# Altium footprint library SOP65P810X110-32N.PcbLib: 2 footprints
Each footprint in its own frame and in the unit in brackets; x right, y up, seen from the top. Pads: shape width x height; smd on the part's side, far side on the other; paste and mask are expansions set on the pad; w line width, h text height; cw(c..) or ccw(c..) is an arc to the next point about the centre after c.
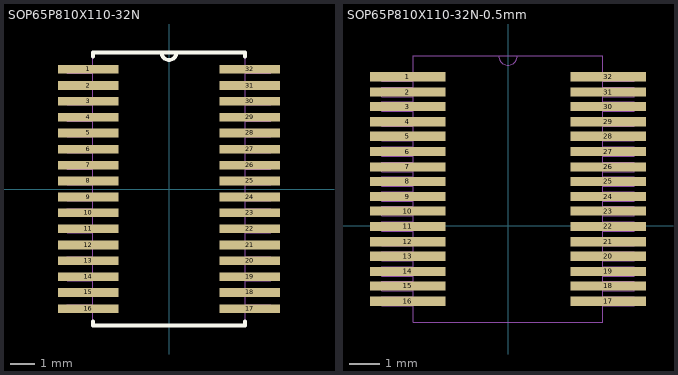
[diagram p0: the footprints below, top view; thin cyan lines are the x and y axes]

## SOP65P810X110-32N [mil]
pads (32):
  rect 97.36x14 smd: 1(-129.31,192) 2(-129.31,166) 3(-129.31,141) 4(-129.31,115) 5(-129.31,90) 6(-129.31,64) 7(-129.31,38) 8(-129.31,13) 9(-129.31,-13) 10(-129.31,-38) 11(-129.31,-64) 12(-129.31,-90) 13(-129.31,-115) 14(-129.31,-141) 15(-129.31,-166) 16(-129.31,-192) 17(129.31,-192) 18(129.31,-166) 19(129.31,-141) 20(129.31,-115) 21(129.31,-90) 22(129.31,-64) 23(129.31,-38) 24(129.31,-13) 25(129.31,13) 26(129.31,38) 27(129.31,64) 28(129.31,90) 29(129.31,115) 30(129.31,141) 31(129.31,166) 32(129.31,192)
Top Overlay:
  lines w6: -122,-212 -122,-219 122,-219 122,-212 ; -122,212 -122,219 -12,219 ; 122,212 122,219 12,219 ; -12,219 ccw(c0,219) 12,219 ; -12,219 12,219
Mechanical 13:
  lines w0: -12,219 ccw(c0,219) 12,219 ; -12,219 12,219 ; -12,219 -122,219 -122,-219 122,-219 122,219 12,219 ; -163,-198 -163,-186 -122,-186 -122,-198 -163,-198 ; -163,-172 -163,-160 -122,-160 -122,-172 -163,-172 ; -163,-147 -163,-135 -122,-135 -122,-147 -163,-147 ; -163,-121 -163,-109 -122,-109 -122,-121 -163,-121 ; -163,-95 -163,-84 -122,-84 -122,-95 -163,-95 ; -163,-70 -163,-58 -122,-58 -122,-70 -163,-70 ; -163,-44 -163,-32 -122,-32 -122,-44 -163,-44 ; -163,-19 -163,-7 -122,-7 -122,-19 -163,-19 ; -163,7 -163,19 -122,19 -122,7 -163,7 ; -163,32 -163,44 -122,44 -122,32 -163,32 ; -163,58 -163,70 -122,70 -122,58 -163,58 ; -163,84 -163,95 -122,95 -122,84 -163,84 ; -163,109 -163,121 -122,121 -122,109 -163,109 ; -163,135 -163,147 -122,147 -122,135 -163,135 ; -163,160 -163,172 -122,172 -122,160 -163,160 ; -163,186 -163,198 -122,198 -122,186 -163,186 ; 122,-198 122,-186 163,-186 163,-198 122,-198 ; 122,-172 122,-160 163,-160 163,-172 122,-172 ; 122,-147 122,-135 163,-135 163,-147 122,-147 ; 122,-121 122,-109 163,-109 163,-121 122,-121 ; 122,-95 122,-84 163,-84 163,-95 122,-95 ; 122,-70 122,-58 163,-58 163,-70 122,-70 ; 122,-44 122,-32 163,-32 163,-44 122,-44 ; 122,-19 122,-7 163,-7 163,-19 122,-19 ; 122,7 122,19 163,19 163,7 122,7 ; 122,32 122,44 163,44 163,32 122,32 ; 122,58 122,70 163,70 163,58 122,58 ; 122,84 122,95 163,95 163,84 122,84 ; 122,109 122,121 163,121 163,109 122,109 ; 122,135 122,147 163,147 163,135 122,135 ; 122,160 122,172 163,172 163,160 122,160 ; 122,186 122,198 163,198 163,186 122,186

## SOP65P810X110-32N-0.5mm [mm]
pads (32):
  rect 2.473x0.3 smd mask+0.051: 1(-3.285,4.877) 2(-3.285,4.376) 3(-3.285,3.901) 4(-3.285,3.401) 5(-3.285,2.926) 6(-3.285,2.426) 7(-3.285,1.925) 8(-3.285,1.45) 9(-3.285,0.95) 10(-3.285,0.475) 11(-3.285,-0.026) 12(-3.285,-0.526) 13(-3.285,-1.001) 14(-3.285,-1.501) 15(-3.285,-1.976) 16(-3.285,-2.477) 17(3.285,-2.477) 18(3.285,-1.976) 19(3.285,-1.501) 20(3.285,-1.001) 21(3.285,-0.526) 22(3.285,-0.026) 23(3.285,0.475) 24(3.285,0.95) 25(3.285,1.45) 26(3.285,1.925) 27(3.285,2.426) 28(3.285,2.926) 29(3.285,3.401) 30(3.285,3.901) 31(3.285,4.376) 32(3.285,4.877)
Bottom Overlay:
  lines w0.152: -3.099,-2.985 -3.099,-3.163 3.099,-3.163 3.099,-2.985 ; -3.099,5.385 -3.099,5.563 -0.305,5.563 ; 3.099,5.385 3.099,5.563 0.305,5.563 ; -0.305,5.563 ccw(c0,5.563) 0.305,5.563 ; -0.305,5.563 0.305,5.563
Mechanical 13:
  lines w0: -3.099,-3.163 -3.099,5.563 -0.305,5.563 ; -3.099,-3.163 3.099,-3.163 ; 3.099,-3.163 3.099,5.563 0.305,5.563 ; -0.305,5.563 ccw(c0,5.563) 0.305,5.563 ; -0.305,5.563 0.305,5.563 ; -4.14,-2.629 -4.14,-2.324 -3.099,-2.324 -3.099,-2.629 -4.14,-2.629 ; -4.14,-2.129 -4.14,-1.824 -3.099,-1.824 -3.099,-2.129 -4.14,-2.129 ; -4.14,-1.654 -4.14,-1.349 -3.099,-1.349 -3.099,-1.654 -4.14,-1.654 ; -4.14,-1.153 -4.14,-0.849 -3.099,-0.849 -3.099,-1.153 -4.14,-1.153 ; -4.14,-0.653 -4.14,-0.374 -3.099,-0.374 -3.099,-0.653 -4.14,-0.653 ; -4.14,-0.178 -4.14,0.127 -3.099,0.127 -3.099,-0.178 -4.14,-0.178 ; -4.14,0.322 -4.14,0.627 -3.099,0.627 -3.099,0.322 -4.14,0.322 ; -4.14,0.797 -4.14,1.102 -3.099,1.102 -3.099,0.797 -4.14,0.797 ; -4.14,1.298 -4.14,1.603 -3.099,1.603 -3.099,1.298 -4.14,1.298 ; -4.14,1.773 -4.14,2.078 -3.099,2.078 -3.099,1.773 -4.14,1.773 ; -4.14,2.273 -4.14,2.578 -3.099,2.578 -3.099,2.273 -4.14,2.273 ; -4.14,2.774 -4.14,3.053 -3.099,3.053 -3.099,2.774 -4.14,2.774 ; -4.14,3.249 -4.14,3.553 -3.099,3.553 -3.099,3.249 -4.14,3.249 ; -4.14,3.749 -4.14,4.054 -3.099,4.054 -3.099,3.749 -4.14,3.749 ; -4.14,4.224 -4.14,4.529 -3.099,4.529 -3.099,4.224 -4.14,4.224 ; -4.14,4.724 -4.14,5.029 -3.099,5.029 -3.099,4.724 -4.14,4.724 ; 3.099,-2.629 3.099,-2.324 4.14,-2.324 4.14,-2.629 3.099,-2.629 ; 3.099,-2.129 3.099,-1.824 4.14,-1.824 4.14,-2.129 3.099,-2.129 ; 3.099,-1.654 3.099,-1.349 4.14,-1.349 4.14,-1.654 3.099,-1.654 ; 3.099,-1.153 3.099,-0.849 4.14,-0.849 4.14,-1.153 3.099,-1.153 ; 3.099,-0.653 3.099,-0.374 4.14,-0.374 4.14,-0.653 3.099,-0.653 ; 3.099,-0.178 3.099,0.127 4.14,0.127 4.14,-0.178 3.099,-0.178 ; 3.099,0.322 3.099,0.627 4.14,0.627 4.14,0.322 3.099,0.322 ; 3.099,0.797 3.099,1.102 4.14,1.102 4.14,0.797 3.099,0.797 ; 3.099,1.298 3.099,1.603 4.14,1.603 4.14,1.298 3.099,1.298 ; 3.099,1.773 3.099,2.078 4.14,2.078 4.14,1.773 3.099,1.773 ; 3.099,2.273 3.099,2.578 4.14,2.578 4.14,2.273 3.099,2.273 ; 3.099,2.774 3.099,3.053 4.14,3.053 4.14,2.774 3.099,2.774 ; 3.099,3.249 3.099,3.553 4.14,3.553 4.14,3.249 3.099,3.249 ; 3.099,3.749 3.099,4.054 4.14,4.054 4.14,3.749 3.099,3.749 ; 3.099,4.224 3.099,4.529 4.14,4.529 4.14,4.224 3.099,4.224 ; 3.099,4.724 3.099,5.029 4.14,5.029 4.14,4.724 3.099,4.724